# Altium schematic symbol library Fudicial mark.Schlib: 1 symbol
Pins are listed as number, name and electrical type; pins without a type are passive.

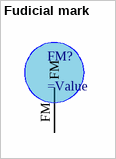
[diagram p0: symbol Fudicial mark]

## Fudicial mark
designator FM?  (no BOM)
=Description
pins: FM